# EAGLE library part TELIT_GL865 (library GSM)
https://www.telit.com/wp-content/uploads/2017/09/1vv0301018_GL865_V3_V3.1_Hardware_User_Guide_r13.pdf
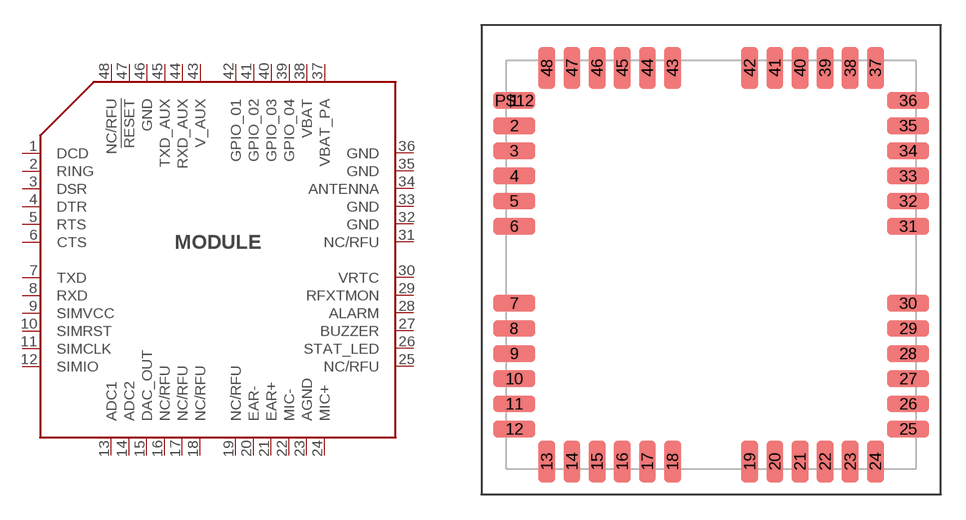
[diagram p4: symbol with the pads of TELIT_GL865; footprint TELIT_GL865]

Designator prefix MODULE

## TELIT_GL865 (MANF: TELIT; MANF#: GL865)  [TELIT_GL865]
1  DCD
2  RING
3  DSR
4  DTR
5  RTS
6  CTS
7  TXD
8  RXD
9  SIMVCC
10  SIMRST
11  SIMCLK
12  SIMIO
13  ADC1
14  ADC2
15  DAC_OUT
16  NC/RFU
17  NC/RFU
18  NC/RFU
19  NC/RFU
20  EAR-
21  EAR+
22  MIC-
23  AGND
24  MIC+
25  NC/RFU
26  STAT_LED
27  BUZZER
28  ALARM
29  RFXTMON
30  VRTC
31  NC/RFU
32  GND
33  GND
34  ANTENNA
35  GND
36  GND
37  VBAT_PA
38  VBAT
39  GPIO_04
40  GPIO_03
41  GPIO_02
42  GPIO_01
43  V_AUX
44  RXD_AUX
45  TXD_AUX
46  GND
47  !RESET
48  NC/RFU

## Footprint TELIT_GL865 (pad centres in mm)
smd 2.5 x 1: 1 -11.75,9.8; 2 -11.75,8.3; 3 -11.75,6.8; 4 -11.75,5.3; 5 -11.75,3.8; 6 -11.75,2.3; 7 -11.75,-2.3; 8 -11.75,-3.8; 9 -11.75,-5.3; 10 -11.75,-6.8; 11 -11.75,-8.3; 12 -11.75,-9.8; 25 11.75,-9.8; 26 11.75,-8.3; 27 11.75,-6.8; 28 11.75,-5.3; 29 11.75,-3.8; 30 11.75,-2.3; 31 11.75,2.3; 32 11.75,3.8; 33 11.75,5.3; 34 11.75,6.8; 35 11.75,8.3; 36 11.75,9.8; P$12 -11.75,9.8
smd 1 x 2.5: 13 -9.8,-11.75; 14 -8.3,-11.75; 15 -6.8,-11.75; 16 -5.3,-11.75; 17 -3.8,-11.75; 18 -2.3,-11.75; 19 2.3,-11.75; 20 3.8,-11.75; 21 5.3,-11.75; 22 6.8,-11.75; 23 8.3,-11.75; 24 9.8,-11.75; 37 9.8,11.75; 38 8.3,11.75; 39 6.8,11.75; 40 5.3,11.75; 41 3.8,11.75; 42 2.3,11.75; 43 -2.3,11.75; 44 -3.8,11.75; 45 -5.3,11.75; 46 -6.8,11.75; 47 -8.3,11.75; 48 -9.8,11.75